# EAGLE library part LED-RGB (library HAB)
RGB LED Digi-Key Part Number1516-1131-2-ND (QT Brightek QBLP679E-RGB)
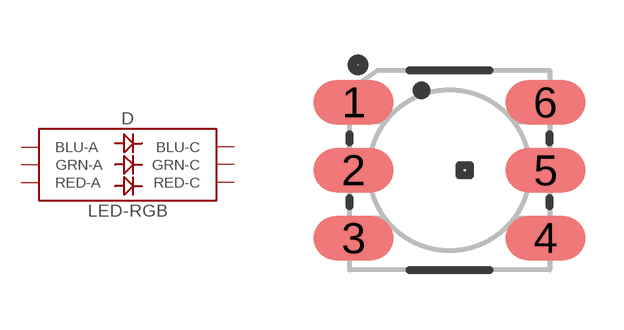
[diagram p23: symbol with the pads of LED-TRICOLOR-5050; footprint LED-TRICOLOR-5050]

Designator prefix D

## LED-RGB  [LED-TRICOLOR-5050]
1  BLU-C
2  GRN-C
3  RED-C
4  RED-A
5  GRN-A
6  BLU-A

## Footprint LED-TRICOLOR-5050 (pad centres in mm)
5050 SMD RGB LED Specifications: Pin count: 6 Pin pitch: 0.6mm Area: 5.0mm x 5.mm Thickness: 2.6mm Datasheet referenced for footprint: 5060BRG4 <http://cdn.sparkfun.com/datasheets/Components/LED/5060BRG4.pdf> Example device(s): LED-RGB
smd 2 x 1.1: 1 -2.4,1.7; 2 -2.4,0; 3 -2.4,-1.7; 4 2.4,-1.7; 5 2.4,0; 6 2.4,1.7